# Altium footprint library Burr-Brown Footprints.PcbLib: 201 footprints (part 9 of 13)
Each footprint in its own frame and in the unit in brackets; x right, y up, seen from the top. Pads: shape width x height; smd on the part's side, far side on the other; paste and mask are expansions set on the pad; w line width, h text height; cw(c..) or ccw(c..) is an arc to the next point about the centre after c.
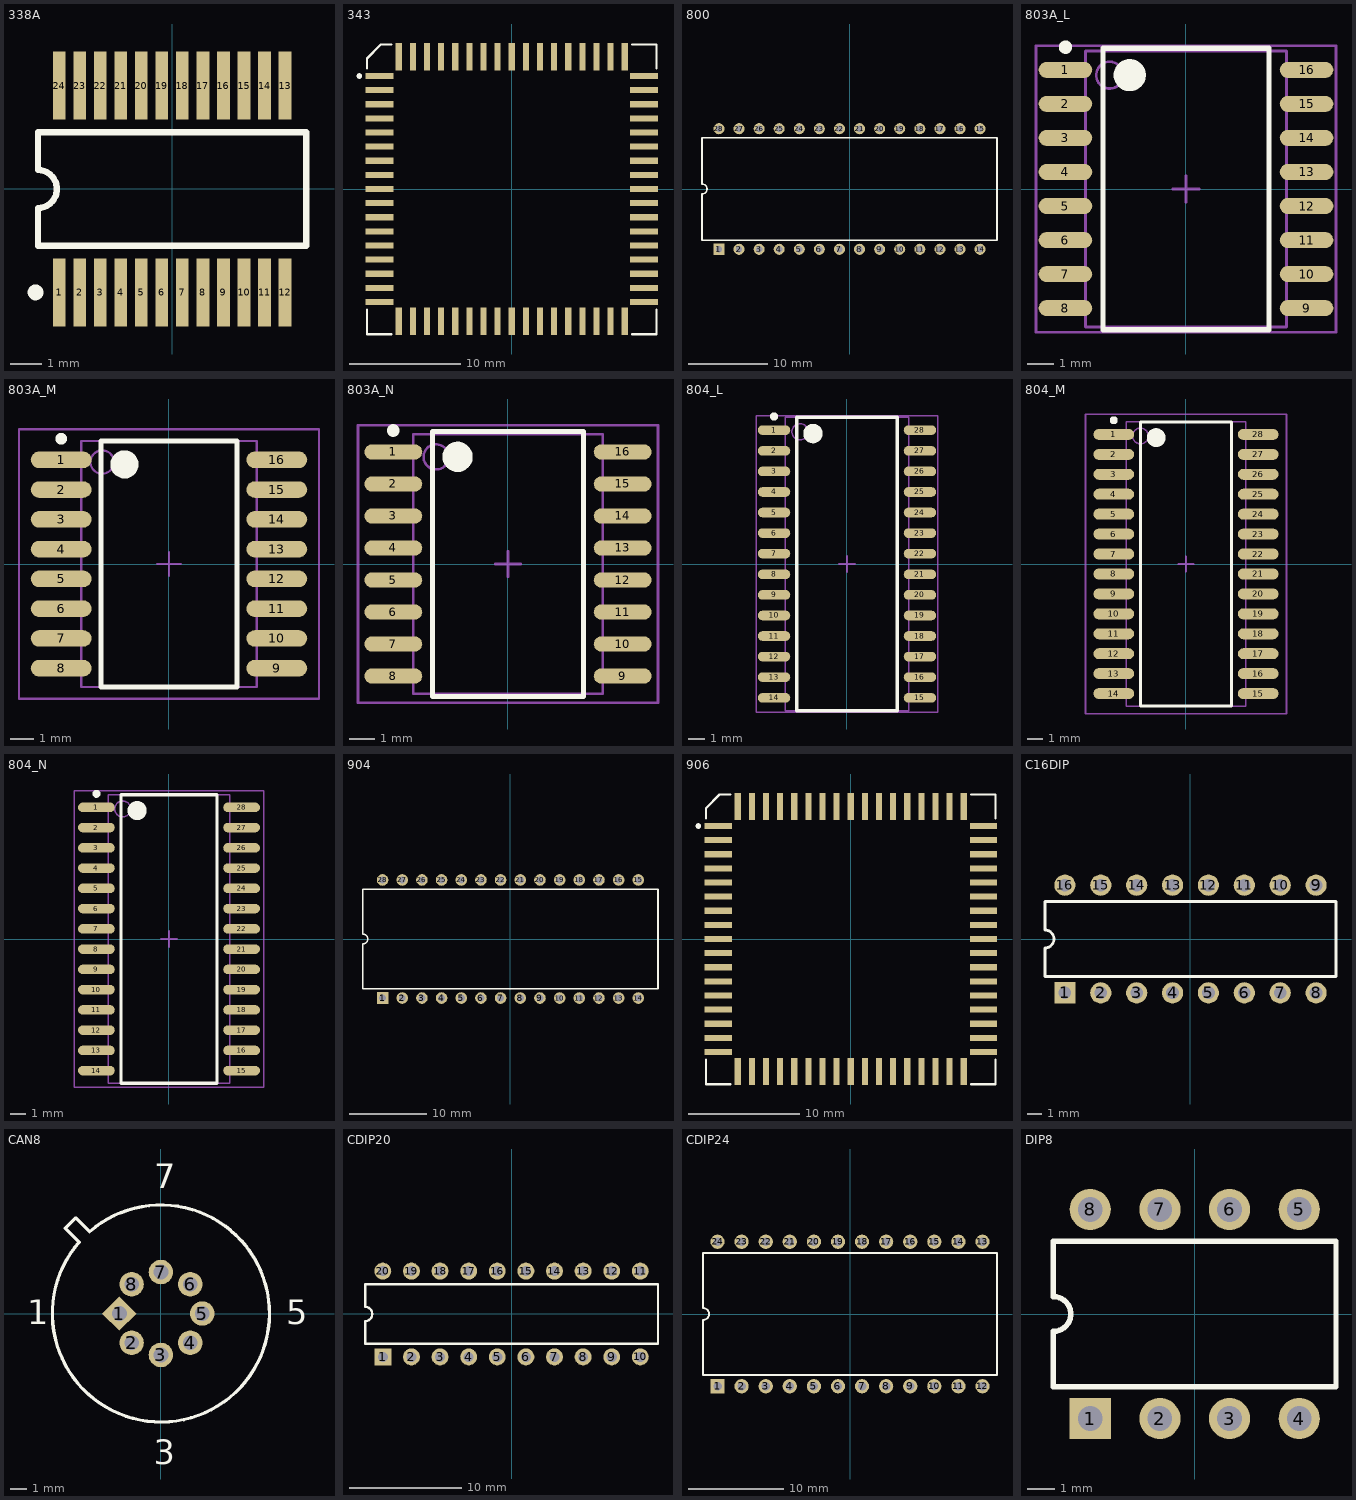
[diagram p8: the footprints below, top view; thin cyan lines are the x and y axes]

## 338A [mm] "SSOP, Plastic; 24 Leads; Body Width 5.3 mm; Pitch 0.65 mm"
height 2
pads (24):
  rect 0.4x2.15 smd: 1(-3.575,-3.275) 2(-2.925,-3.275) 3(-2.275,-3.275) 4(-1.625,-3.275) 5(-0.975,-3.275) 6(-0.325,-3.275) 7(0.325,-3.275) 8(0.975,-3.275) 9(1.625,-3.275) 10(2.275,-3.275) 11(2.925,-3.275) 12(3.575,-3.275) 13(3.575,3.275) 14(2.925,3.275) 15(2.275,3.275) 16(1.625,3.275) 17(0.975,3.275) 18(0.325,3.275) 19(-0.325,3.275) 20(-0.975,3.275) 21(-1.625,3.275) 22(-2.275,3.275) 23(-2.925,3.275) 24(-3.575,3.275)
Top Overlay:
  circle w0.25: c-4.325,-3.275 r0.125
  lines w0.2: -4.25,-1.8 -4.25,-0.6 ccw(c-4.25,0) -4.25,0.6 -4.25,1.8 4.25,1.8 4.25,-1.8 -4.25,-1.8

## 343 [mm] "Leadless Chip Carrier; 68 Terminals; Body 24.3 x 24.3 mm"
height 2.39
pads (68):
  rect 2.5x0.55 smd: 1(-11.9,10.16) 2(-11.9,8.89) 3(-11.9,7.62) 4(-11.9,6.35) 5(-11.9,5.08) 6(-11.9,3.81) 7(-11.9,2.54) 8(-11.9,1.27) 9(-11.9,0) 10(-11.9,-1.27) 11(-11.9,-2.54) 12(-11.9,-3.81) 13(-11.9,-5.08) 14(-11.9,-6.35) 15(-11.9,-7.62) 16(-11.9,-8.89) 17(-11.9,-10.16) 35(11.9,-10.16) 36(11.9,-8.89) 37(11.9,-7.62) 38(11.9,-6.35) 39(11.9,-5.08) 40(11.9,-3.81) 41(11.9,-2.54) 42(11.9,-1.27) 43(11.9,0) 44(11.9,1.27) 45(11.9,2.54) 46(11.9,3.81) 47(11.9,5.08) 48(11.9,6.35) 49(11.9,7.62) 50(11.9,8.89) 51(11.9,10.16)
  rect 0.55x2.5 smd: 18(-10.16,-11.9) 19(-8.89,-11.9) 20(-7.62,-11.9) 21(-6.35,-11.9) 22(-5.08,-11.9) 23(-3.81,-11.9) 24(-2.54,-11.9) 25(-1.27,-11.9) 26(0,-11.9) 27(1.27,-11.9) 28(2.54,-11.9) 29(3.81,-11.9) 30(5.08,-11.9) 31(6.35,-11.9) 32(7.62,-11.9) 33(8.89,-11.9) 34(10.16,-11.9) 52(10.16,11.9) 53(8.89,11.9) 54(7.62,11.9) 55(6.35,11.9) 56(5.08,11.9) 57(3.81,11.9) 58(2.54,11.9) 59(1.27,11.9) 60(0,11.9) 61(-1.27,11.9) 62(-2.54,11.9) 63(-3.81,11.9) 64(-5.08,11.9) 65(-6.35,11.9) 66(-7.62,11.9) 67(-8.89,11.9) 68(-10.16,11.9)
Top Overlay:
  circle w0.25: c-13.7,10.16 r0.125
  lines w0.2: -13.025,-10.835 -13.025,-13.063 -10.835,-13.063 ; -13.025,10.835 -13.025,11.738 -11.775,12.988 -10.835,12.988 ; 10.835,-13.063 13.025,-13.063 13.025,-10.835 ; 10.835,12.988 13.025,12.988 13.025,10.835

## 800 [mm] "DIP; 28 Leads; Row Spacing 15.24 mm; Pitch 2.54 mm"
height 5.7
pads (28):
  rect 1.4x1.4 hole 0.8: 1(-16.51,-7.62)
  round 1.4 hole 0.8: 2(-13.97,-7.62) 3(-11.43,-7.62) 4(-8.89,-7.62) 5(-6.35,-7.62) 6(-3.81,-7.62) 7(-1.27,-7.62) 8(1.27,-7.62) 9(3.81,-7.62) 10(6.35,-7.62) 11(8.89,-7.62) 12(11.43,-7.62) 13(13.97,-7.62) 14(16.51,-7.62) 15(16.51,7.62) 16(13.97,7.62) 17(11.43,7.62) 18(8.89,7.62) 19(6.35,7.62) 20(3.81,7.62) 21(1.27,7.62) 22(-1.27,7.62) 23(-3.81,7.62) 24(-6.35,7.62) 25(-8.89,7.62) 26(-11.43,7.62) 27(-13.97,7.62) 28(-16.51,7.62)
Top Overlay:
  lines w0.2: -18.65,-6.5 18.65,-6.5 18.65,6.5 -18.65,6.5 -18.65,0.635 cw(c-18.65,0) -18.65,-0.635 -18.65,-6.5

## 803A_L [mm] "16-Pin Small Outline Integrated Circuit 1.27 mm Pitch, IPC High Density"
height 2.77
pads (16):
  oval 2x0.6 smd: 1(-4.5,4.445) 2(-4.5,3.175) 3(-4.5,1.905) 4(-4.5,0.635) 5(-4.5,-0.635) 6(-4.5,-1.905) 7(-4.5,-3.175) 8(-4.5,-4.445) 9(4.5,-4.445) 10(4.5,-3.175) 11(4.5,-1.905) 12(4.5,-0.635) 13(4.5,0.635) 14(4.5,1.905) 15(4.5,3.175) 16(4.5,4.445)
Top Overlay:
  circle w0.25: c-4.5,5.295 r0.125
  circle w0.6: c-2.1,4.25 r0.3
  lines w0.2: -3.1,-5.25 -3.1,5.25 3.1,5.25 3.1,-5.25 -3.1,-5.25
Mechanical 13:
  circle w0.1: c-2.85,4.25 r0.5
  lines w0.1: -3.75,-5.15 -3.75,5.15 3.75,5.15 3.75,-5.15 -3.75,-5.15
Mechanical 15:
  lines w0.1: -0.5,0 0.5,0 ; 0,-0.5 0,0.5 ; -5.6,-5.35 -5.6,5.35 5.6,5.35 5.6,-5.35 -5.6,-5.35
3D body: height 2.77, standoff 0, extent -3.75,-5.15 3.75,5.15

## 803A_M [mm] "16-Pin Small Outline Integrated Circuit 1.27 mm Pitch, IPC Low Density"
height 2.77
pads (16):
  oval 2.6x0.7 smd: 1(-4.6,4.445) 2(-4.6,3.175) 3(-4.6,1.905) 4(-4.6,0.635) 5(-4.6,-0.635) 6(-4.6,-1.905) 7(-4.6,-3.175) 8(-4.6,-4.445) 9(4.6,-4.445) 10(4.6,-3.175) 11(4.6,-1.905) 12(4.6,-0.635) 13(4.6,0.635) 14(4.6,1.905) 15(4.6,3.175) 16(4.6,4.445)
Top Overlay:
  circle w0.25: c-4.6,5.345 r0.125
  circle w0.6: c-1.9,4.25 r0.3
  lines w0.2: -2.9,-5.25 -2.9,5.25 2.9,5.25 2.9,-5.25 -2.9,-5.25
Mechanical 13:
  circle w0.1: c-2.85,4.35 r0.5
  lines w0.1: -3.75,-5.25 -3.75,5.25 3.75,5.25 3.75,-5.25 -3.75,-5.25
Mechanical 15:
  lines w0.1: -0.5,0 0.5,0 ; 0,-0.5 0,0.5 ; -6.4,-5.75 -6.4,5.75 6.4,5.75 6.4,-5.75 -6.4,-5.75
3D body: height 2.77, standoff 0, extent -3.75,-5.25 3.75,5.25

## 803A_N [mm] "16-Pin Small Outline Integrated Circuit 1.27 mm Pitch, IPC Medium Density"
height 2.77
pads (16):
  oval 2.3x0.6 smd: 1(-4.55,4.445) 2(-4.55,3.175) 3(-4.55,1.905) 4(-4.55,0.635) 5(-4.55,-0.635) 6(-4.55,-1.905) 7(-4.55,-3.175) 8(-4.55,-4.445) 9(4.55,-4.445) 10(4.55,-3.175) 11(4.55,-1.905) 12(4.55,-0.635) 13(4.55,0.635) 14(4.55,1.905) 15(4.55,3.175) 16(4.55,4.445)
Top Overlay:
  circle w0.25: c-4.55,5.295 r0.125
  circle w0.6: c-2,4.25 r0.3
  lines w0.2: -3,-5.25 -3,5.25 3,5.25 3,-5.25 -3,-5.25
Mechanical 13:
  circle w0.1: c-2.85,4.25 r0.5
  lines w0.1: -3.75,-5.15 -3.75,5.15 3.75,5.15 3.75,-5.15 -3.75,-5.15
Mechanical 15:
  lines w0.1: -0.5,0 0.5,0 ; 0,-0.5 0,0.5 ; -5.95,-5.5 -5.95,5.5 5.95,5.5 5.95,-5.5 -5.95,-5.5
3D body: height 2.77, standoff 0, extent -3.75,-5.15 3.75,5.15

## 804_L [mm] "28-Pin Small Outline Integrated Circuit 1.27 mm Pitch, IPC High Density"
height 2.39
pads (28):
  oval 2x0.6 smd: 1(-4.5,8.255) 2(-4.5,6.985) 3(-4.5,5.715) 4(-4.5,4.445) 5(-4.5,3.175) 6(-4.5,1.905) 7(-4.5,0.635) 8(-4.5,-0.635) 9(-4.5,-1.905) 10(-4.5,-3.175) 11(-4.5,-4.445) 12(-4.5,-5.715) 13(-4.5,-6.985) 14(-4.5,-8.255) 15(4.5,-8.255) 16(4.5,-6.985) 17(4.5,-5.715) 18(4.5,-4.445) 19(4.5,-3.175) 20(4.5,-1.905) 21(4.5,-0.635) 22(4.5,0.635) 23(4.5,1.905) 24(4.5,3.175) 25(4.5,4.445) 26(4.5,5.715) 27(4.5,6.985) 28(4.5,8.255)
Top Overlay:
  circle w0.25: c-4.5,9.105 r0.125
  circle w0.6: c-2.1,8.05 r0.3
  lines w0.2: -3.1,-9.05 -3.1,9.05 3.1,9.05 3.1,-9.05 -3.1,-9.05
Mechanical 13:
  circle w0.1: c-2.9,8.155 r0.5
  lines w0.1: -3.8,-9.055 -3.8,9.055 3.8,9.055 3.8,-9.055 -3.8,-9.055
Mechanical 15:
  lines w0.1: -0.5,0 0.5,0 ; 0,-0.5 0,0.5 ; -5.6,-9.15 -5.6,9.15 5.6,9.15 5.6,-9.15 -5.6,-9.15
3D body: height 2.39, standoff 0, extent -3.8,-9.055 3.8,9.055

## 804_M [mm] "28-Pin Small Outline Integrated Circuit 1.27 mm Pitch, IPC Low Density"
height 2.39
pads (28):
  oval 2.6x0.7 smd: 1(-4.6,8.255) 2(-4.6,6.985) 3(-4.6,5.715) 4(-4.6,4.445) 5(-4.6,3.175) 6(-4.6,1.905) 7(-4.6,0.635) 8(-4.6,-0.635) 9(-4.6,-1.905) 10(-4.6,-3.175) 11(-4.6,-4.445) 12(-4.6,-5.715) 13(-4.6,-6.985) 14(-4.6,-8.255) 15(4.6,-8.255) 16(4.6,-6.985) 17(4.6,-5.715) 18(4.6,-4.445) 19(4.6,-3.175) 20(4.6,-1.905) 21(4.6,-0.635) 22(4.6,0.635) 23(4.6,1.905) 24(4.6,3.175) 25(4.6,4.445) 26(4.6,5.715) 27(4.6,6.985) 28(4.6,8.255)
Top Overlay:
  circle w0.25: c-4.6,9.155 r0.125
  circle w0.6: c-1.9,8.05 r0.3
  lines w0.2: -2.9,-9.05 -2.9,9.05 2.9,9.05 2.9,-9.05 -2.9,-9.05
Mechanical 13:
  circle w0.1: c-2.9,8.155 r0.5
  lines w0.1: -3.8,-9.055 -3.8,9.055 3.8,9.055 3.8,-9.055 -3.8,-9.055
Mechanical 15:
  lines w0.1: -0.5,0 0.5,0 ; 0,-0.5 0,0.5 ; -6.4,-9.55 -6.4,9.55 6.4,9.55 6.4,-9.55 -6.4,-9.55
3D body: height 2.39, standoff 0, extent -3.8,-9.055 3.8,9.055

## 804_N [mm] "28-Pin Small Outline Integrated Circuit 1.27 mm Pitch, IPC Medium Density"
height 2.39
pads (28):
  oval 2.3x0.6 smd: 1(-4.55,8.255) 2(-4.55,6.985) 3(-4.55,5.715) 4(-4.55,4.445) 5(-4.55,3.175) 6(-4.55,1.905) 7(-4.55,0.635) 8(-4.55,-0.635) 9(-4.55,-1.905) 10(-4.55,-3.175) 11(-4.55,-4.445) 12(-4.55,-5.715) 13(-4.55,-6.985) 14(-4.55,-8.255) 15(4.55,-8.255) 16(4.55,-6.985) 17(4.55,-5.715) 18(4.55,-4.445) 19(4.55,-3.175) 20(4.55,-1.905) 21(4.55,-0.635) 22(4.55,0.635) 23(4.55,1.905) 24(4.55,3.175) 25(4.55,4.445) 26(4.55,5.715) 27(4.55,6.985) 28(4.55,8.255)
Top Overlay:
  circle w0.25: c-4.55,9.105 r0.125
  circle w0.6: c-2,8.05 r0.3
  lines w0.2: -3,-9.05 -3,9.05 3,9.05 3,-9.05 -3,-9.05
Mechanical 13:
  circle w0.1: c-2.9,8.155 r0.5
  lines w0.1: -3.8,-9.055 -3.8,9.055 3.8,9.055 3.8,-9.055 -3.8,-9.055
Mechanical 15:
  lines w0.1: -0.5,0 0.5,0 ; 0,-0.5 0,0.5 ; -5.95,-9.3 -5.95,9.3 5.95,9.3 5.95,-9.3 -5.95,-9.3
3D body: height 2.39, standoff 0, extent -3.8,-9.055 3.8,9.055

## 904 [mm] "DIP; 28 Leads; Row Spacing 15.24 mm; Pitch 2.54 mm"
height 5.08
pads (28):
  rect 1.5x1.5 hole 0.9: 1(-16.51,-7.62)
  round 1.5 hole 0.9: 2(-13.97,-7.62) 3(-11.43,-7.62) 4(-8.89,-7.62) 5(-6.35,-7.62) 6(-3.81,-7.62) 7(-1.27,-7.62) 8(1.27,-7.62) 9(3.81,-7.62) 10(6.35,-7.62) 11(8.89,-7.62) 12(11.43,-7.62) 13(13.97,-7.62) 14(16.51,-7.62) 15(16.51,7.62) 16(13.97,7.62) 17(11.43,7.62) 18(8.89,7.62) 19(6.35,7.62) 20(3.81,7.62) 21(1.27,7.62) 22(-1.27,7.62) 23(-3.81,7.62) 24(-6.35,7.62) 25(-8.89,7.62) 26(-11.43,7.62) 27(-13.97,7.62) 28(-16.51,7.62)
Top Overlay:
  lines w0.2: -19.05,-6.45 19.05,-6.45 19.05,6.45 -19.05,6.45 -19.05,0.635 cw(c-19.05,0) -19.05,-0.635 -19.05,-6.45

## 906 [mm] "Leadless Chip Carrier; 68 Terminals; Body 24.3 x 24.3 mm"
height 2.39
pads (68):
  rect 2.45x0.55 smd: 1(-11.925,10.16) 2(-11.925,8.89) 3(-11.925,7.62) 4(-11.925,6.35) 5(-11.925,5.08) 6(-11.925,3.81) 7(-11.925,2.54) 8(-11.925,1.27) 9(-11.925,0) 10(-11.925,-1.27) 11(-11.925,-2.54) 12(-11.925,-3.81) 13(-11.925,-5.08) 14(-11.925,-6.35) 15(-11.925,-7.62) 16(-11.925,-8.89) 17(-11.925,-10.16) 35(11.925,-10.16) 36(11.925,-8.89) 37(11.925,-7.62) 38(11.925,-6.35) 39(11.925,-5.08) 40(11.925,-3.81) 41(11.925,-2.54) 42(11.925,-1.27) 43(11.925,0) 44(11.925,1.27) 45(11.925,2.54) 46(11.925,3.81) 47(11.925,5.08) 48(11.925,6.35) 49(11.925,7.62) 50(11.925,8.89) 51(11.925,10.16)
  rect 0.55x2.45 smd: 18(-10.16,-11.925) 19(-8.89,-11.925) 20(-7.62,-11.925) 21(-6.35,-11.925) 22(-5.08,-11.925) 23(-3.81,-11.925) 24(-2.54,-11.925) 25(-1.27,-11.925) 26(0,-11.925) 27(1.27,-11.925) 28(2.54,-11.925) 29(3.81,-11.925) 30(5.08,-11.925) 31(6.35,-11.925) 32(7.62,-11.925) 33(8.89,-11.925) 34(10.16,-11.925) 52(10.16,11.925) 53(8.89,11.925) 54(7.62,11.925) 55(6.35,11.925) 56(5.08,11.925) 57(3.81,11.925) 58(2.54,11.925) 59(1.27,11.925) 60(0,11.925) 61(-1.27,11.925) 62(-2.54,11.925) 63(-3.81,11.925) 64(-5.08,11.925) 65(-6.35,11.925) 66(-7.62,11.925) 67(-8.89,11.925) 68(-10.16,11.925)
Top Overlay:
  circle w0.25: c-13.7,10.16 r0.125
  lines w0.2: -13.025,-10.835 -13.025,-13.063 -10.835,-13.063 ; -13.025,10.835 -13.025,11.763 -11.8,12.988 -10.835,12.988 ; 10.835,-13.063 13.025,-13.063 13.025,-10.835 ; 10.835,12.988 13.025,12.988 13.025,10.835

## C16DIP [mm] "DIP; 16 Leads; Row Spacing 7.62 mm; Pitch 2.54 mm"
height 4.32
pads (16):
  rect 1.5x1.5 hole 0.9: 1(-8.89,-3.81)
  round 1.5 hole 0.9: 2(-6.35,-3.81) 3(-3.81,-3.81) 4(-1.27,-3.81) 5(1.27,-3.81) 6(3.81,-3.81) 7(6.35,-3.81) 8(8.89,-3.81) 9(8.89,3.81) 10(6.35,3.81) 11(3.81,3.81) 12(1.27,3.81) 13(-1.27,3.81) 14(-3.81,3.81) 15(-6.35,3.81) 16(-8.89,3.81)
Top Overlay:
  lines w0.2: -10.3,-2.65 -10.3,-0.635 ccw(c-10.3,0) -10.3,0.635 -10.3,2.65 10.3,2.65 10.3,-2.65 -10.3,-2.65

## CAN8 [mm] "Can; 8 Leads; Pin Circle Dia. 5.08 mm; Lead Dia. 0.53 mm (max)"
height 8.82
pads (8):
  rect 1.5x1.5 hole 0.9 rot 45: 1(-2.54,0)
  round 1.5 hole 0.9: 2(-1.796,-1.796) 3(0,-2.54) 4(1.796,-1.796) 5(2.54,0) 6(1.796,1.796) 7(0,2.54) 8(-1.796,1.796)
Top Overlay:
  lines w0.2: -5.858,5.222 -5.222,5.858 -4.373,5.01 cw(c0,0) -5.01,4.373 -5.858,5.222
  text "7" at -0.406,7.66 h1.5
  text "5" at 7.668,-0.667 h1.5
  text "3" at -0.431,-9.221 h1.5
  text "1" at -8.177,-0.667 h1.5

## CDIP20 [mm] "DIP; 20 Leads; Row Spacing 7.62 mm; Pitch 2.54 mm"
height 3.56
pads (20):
  rect 1.5x1.5 hole 0.9: 1(-11.43,-3.81)
  round 1.5 hole 0.9: 2(-8.89,-3.81) 3(-6.35,-3.81) 4(-3.81,-3.81) 5(-1.27,-3.81) 6(1.27,-3.81) 7(3.81,-3.81) 8(6.35,-3.81) 9(8.89,-3.81) 10(11.43,-3.81) 11(11.43,3.81) 12(8.89,3.81) 13(6.35,3.81) 14(3.81,3.81) 15(1.27,3.81) 16(-1.27,3.81) 17(-3.81,3.81) 18(-6.35,3.81) 19(-8.89,3.81) 20(-11.43,3.81)
Top Overlay:
  lines w0.2: -13,-2.65 -13,-0.635 ccw(c-13,0) -13,0.635 -13,2.65 13,2.65 13,-2.65 -13,-2.65

## CDIP24 [mm] "DIP; 24 Leads; Row Spacing 15.24 mm; Pitch 2.54 mm"
height 4.32
pads (24):
  rect 1.5x1.5 hole 0.9: 1(-13.97,-7.62)
  round 1.5 hole 0.9: 2(-11.43,-7.62) 3(-8.89,-7.62) 4(-6.35,-7.62) 5(-3.81,-7.62) 6(-1.27,-7.62) 7(1.27,-7.62) 8(3.81,-7.62) 9(6.35,-7.62) 10(8.89,-7.62) 11(11.43,-7.62) 12(13.97,-7.62) 13(13.97,7.62) 14(11.43,7.62) 15(8.89,7.62) 16(6.35,7.62) 17(3.81,7.62) 18(1.27,7.62) 19(-1.27,7.62) 20(-3.81,7.62) 21(-6.35,7.62) 22(-8.89,7.62) 23(-11.43,7.62) 24(-13.97,7.62)
Top Overlay:
  lines w0.2: -15.5,-6.45 15.5,-6.45 15.5,6.45 -15.5,6.45 -15.5,0.635 cw(c-15.5,0) -15.5,-0.635 -15.5,-6.45

## DIP8 [mm] "DIP; 8 Leads; Row Spacing 7.62 mm; Pitch 2.54 mm"
height 5.09
pads (8):
  rect 1.5x1.5 hole 0.9: 1(-3.81,-3.81)
  round 1.5 hole 0.9: 2(-1.27,-3.81) 3(1.27,-3.81) 4(3.81,-3.81) 5(3.81,3.81) 6(1.27,3.81) 7(-1.27,3.81) 8(-3.81,3.81)
Top Overlay:
  lines w0.2: -5.15,-2.65 -5.15,-0.635 ccw(c-5.15,0) -5.15,0.635 -5.15,2.65 5.15,2.65 5.15,-2.65 -5.15,-2.65